# Altium footprint library 插座.PcbLib: 7 footprints
Each footprint in its own frame and in the unit in brackets; x right, y up, seen from the top. Pads: shape width x height; smd on the part's side, far side on the other; paste and mask are expansions set on the pad; w line width, h text height; cw(c..) or ccw(c..) is an arc to the next point about the centre after c.
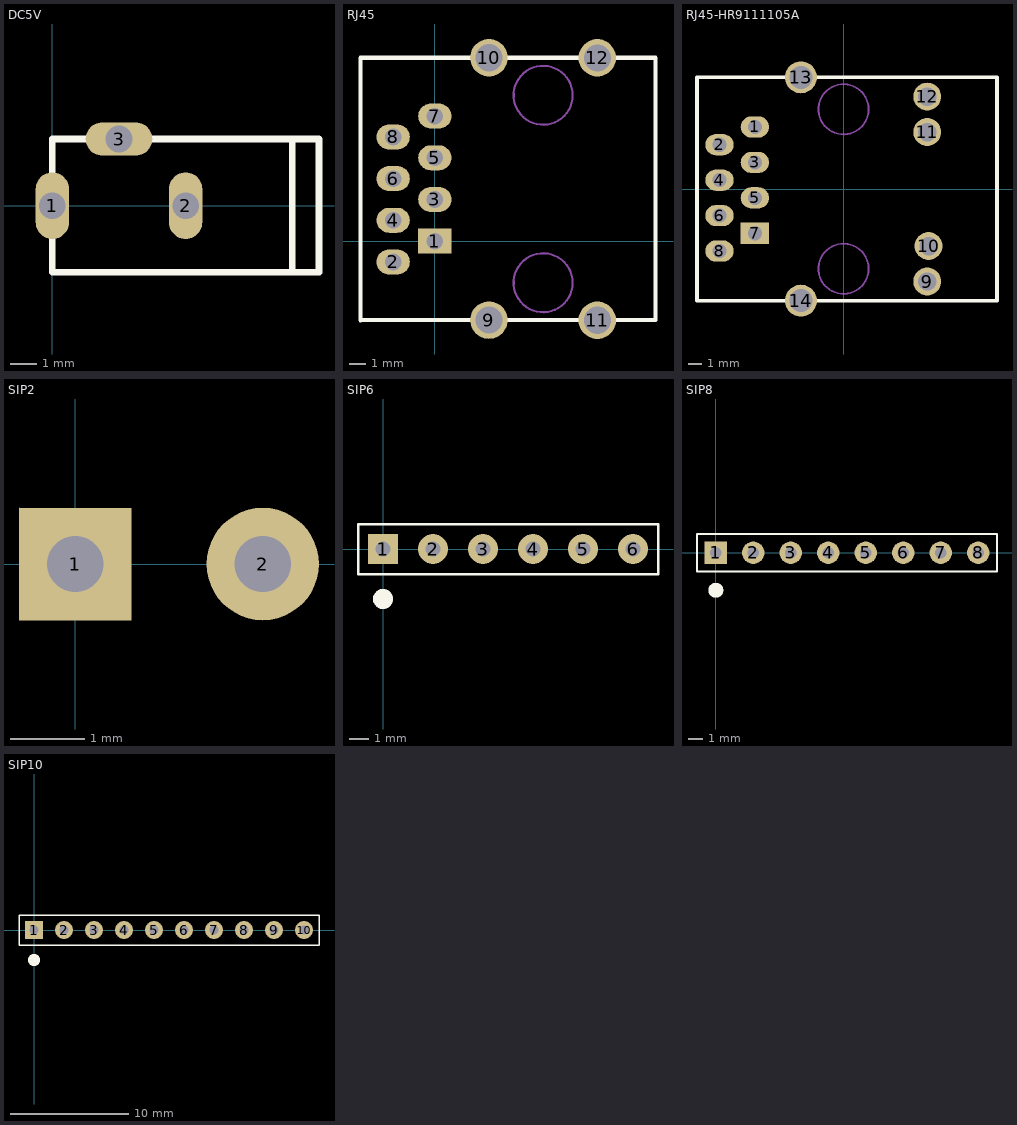
[diagram p0: the footprints below, top view; thin cyan lines are the x and y axes]

## DC5V [mil] "DC 5.0V"
pads (3):
  oval 50x100 hole 40: 1(0,0) 2(200,0)
  oval 100x50 hole 40: 3(100,100)
Top Overlay:
  lines w10: 360,-100 360,100 ; 0,-100 400,-100 400,100 0,100 0,-100

## RJ45 [mil] "网口插座"
height 30
pads (12):
  rect 80x60 hole 40: 1(0,0)
  oval 80x60 hole 40: 2(-100,-50) 3(0,100) 4(-100,50) 5(0,200) 6(-100,150) 7(0,300) 8(-100,250)
  round 90 hole 65: 9(129.92,-189.76) 10(129.92,440.16) 11(390,-190) 12(390,440)
Top Overlay:
  lines w10: -178.74,-190 -178.5,-189.76 ; -178.74,440 -178.58,440.16 ; 530,440 529.84,440.16 129.92,440.16 -178.58,440.16 ; 530,440.16 530,-189.76 129.92,-189.76 -178.5,-189.76 ; -178.58,440.16 -178.58,-189.69 -178.5,-189.76
Mechanical 1:
  circle w5: c260,350 r70.8
  circle w5: c260,-100 r70.8

## RJ45-HR9111105A [mil] "网口插座"
height 30
pads (14):
  oval 80x60 hole 40: 1(-250,175.2) 2(-350,125.2) 3(-250,75.2) 4(-350,25.2) 5(-250,-24.8) 6(-350,-74.8) 8(-350,-174.8)
  rect 80x60 hole 40: 7(-250,-124.8)
  round 78.74 hole 51.97: 9(236.22,-260.83) 10(240,-160.83) 11(236.22,160.83) 12(236.22,260.83)
  round 90 hole 65: 13(-120.08,315.16) 14(-120.08,-314.76)
Top Overlay:
  lines w10: 269.84,315.16 270,315 ; -413.39,-314.96 433.07,-314.96 433.07,314.96 -413.39,314.96 -413.39,-314.96
Mechanical 1:
  circle w5: c0,225 r70.8
  circle w5: c0,-225 r70.8

## SIP2 [mil] "SIP2"
pads (2):
  rect 60x60 hole 30: 1(0,0)
  round 60 hole 30: 2(100,0)

## SIP6 [mil] "SIP6"
pads (6):
  rect 60x60 hole 30: 1(0,0)
  round 60 hole 30: 2(100,0) 3(200,0) 4(300,0) 5(400,0) 6(500,0)
Top Overlay:
  circle w20: c0,-100 r10
  lines w5: -50,-50 -50,50 550,50 550,-50 -50,-50

## SIP8 [mil] "SIP8"
pads (8):
  rect 60x60 hole 30: 1(0,0)
  round 60 hole 30: 2(100,0) 3(200,0) 4(300,0) 5(400,0) 6(500,0) 7(600,0) 8(700,0)
Top Overlay:
  circle w20: c0,-100 r10
  lines w5: -50,-50 -50,50 750,50 750,-50 -50,-50

## SIP10 [mil] "SIP10"
pads (10):
  rect 60x60 hole 30: 1(0,0)
  round 60 hole 30: 2(100,0) 3(200,0) 4(300,0) 5(400,0) 6(500,0) 7(600,0) 8(700,0) 9(800,0) 10(900,0)
Top Overlay:
  circle w20: c0,-100 r10
  lines w5: -50,-50 950,-50 950,50 -50,50 -50,-50